# Altium schematic symbol library FlexBMS_lib.schlib: 25 symbols
Pins are listed as number, name and electrical type; pins without a type are passive.

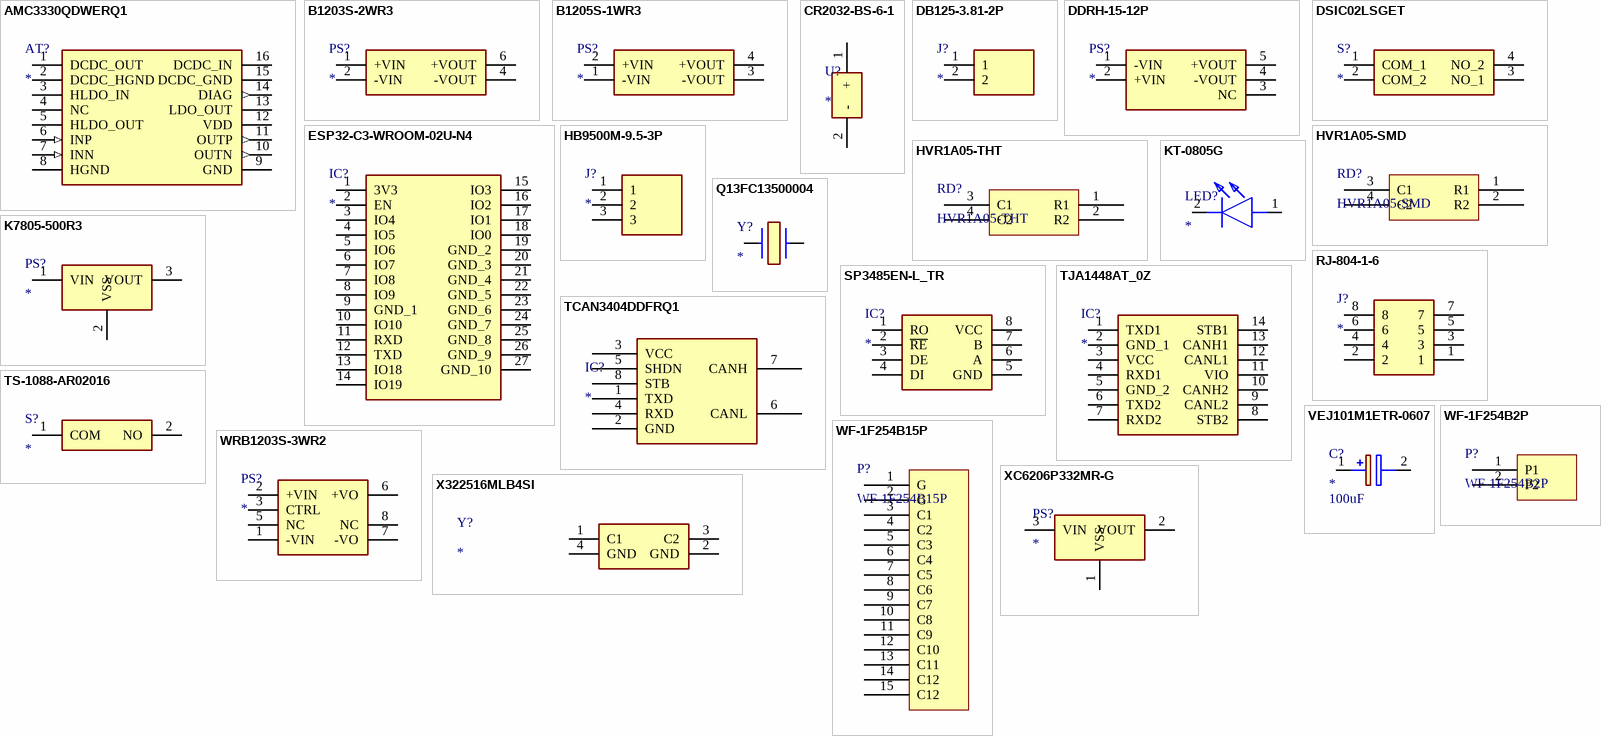
[diagram p0: symbols AMC3330QDWERQ1 to XC6206P332MR-G]

## AMC3330QDWERQ1
designator AT?
Attenuator or Isolator; Manufacturer_Name: Texas Instruments; Manufacturer_Part_Number: AMC3330QDWERQ1; Datasheet Link: https://www.ti.com/lit/ds/symlink/amc3330.pdf?ts=1605812770714&ref_url=https%253A%252F%252Fwww.ti.com%252Fsitesearch%252Fdocs%252Funiversalsearch.tsp%253FsearchTerm%253DAMC3330DWE; Height: 2.65mm; Mouser Part Number: 595-AMC3330QDWERQ1; Mouser Price/Stock: https://www.mouser.co.uk/ProductDetail/Texas-Instruments/AMC3330QDWERQ1?qs=81r%252BiQLm7BThq9fK1XpIYg%3D%3D; Arrow Part Number: AMC3330QDWERQ1; Arrow Price/Stock: https://www.arrow.com/en/products/amc3330qdwerq1/texas-instruments?utm_currency=USD&region=nac
footprint SOIC127P1030X265-16N
pins: 1 DCDC_OUT (power), 2 DCDC_HGND (power), 3 HLDO_IN (power), 4 NC, 5 HLDO_OUT (power), 6 INP (in), 7 INN (in), 8 HGND (power), 9 GND (power), 10 OUTN (out), 11 OUTP (out), 12 VDD (power), 13 LDO_OUT (power), 14 DIAG (out), 15 DCDC_GND (power), 16 DCDC_IN (power)

## B1203S-2WR3
designator PS?
Power Supply; Manufacturer_Name: Hi-Link; Manufacturer_Part_Number: B1203S-2WR3; Datasheet Link: https://wmsc.lcsc.com/wmsc/upload/file/pdf/v2/lcsc/2206171701_HI-LINK-HLK-B1203S-2WR3_C3029158.pdf; Height: 10.25mm
footprint B1203S2WR3
pins: 1 +VIN, 2 -VIN, 4 -VOUT, 6 +VOUT

## B1205S-1WR3
designator PS?
Power Supply; Manufacturer_Name: Hi-Link; Manufacturer_Part_Number: B1205S-1WR3; Datasheet Link: https://sharvielectronics.com/wp-content/uploads/2023/06/B_S-1WR3-Series-Specifications-Manual-V1.2.pdf; Height: 10.25mm
footprint B1205S1WR3
pins: 1 -VIN, 2 +VIN, 3 -VOUT, 4 +VOUT

## CR2032-BS-6-1
designator U?
Undefined or Miscellaneous; Manufacturer_Name: Q&J; Manufacturer_Part_Number: CR2032-BS-6-1; Datasheet Link: https://datasheet.lcsc.com/szlcsc/Q-J-CR2032-BS-6-1_C70377.pdf; Height: 6mm
footprint CR2032BS61
pins: 1 +, 2 -

## DB125-3.81-2P
designator J?
Connector; Manufacturer_Name: Cixi Dibo Electronics Co.,LTD; Manufacturer_Part_Number: DB125-3.81-2P; Datasheet Link: https://datasheet.lcsc.com/szlcsc/1910111742_DIBO-DB125-3-81-2P_C395878.pdf; Height: 8.8mm
footprint SHDR2W80P0X381_1X2_802X740X880P
pins: 1, 2

## DDRH-15-12P
designator PS?
Power Supply; Manufacturer_Name: Mean Well; Manufacturer_Part_Number: DDRH-15-12P; Datasheet Link: https://www.meanwell.com/webapp/product/search.aspx?prod=DDRH-15; Height: 25.03mm; Arrow Part Number: DDRH-15-12P; Arrow Price/Stock: https://www.arrow.com/en/products/ddrh-15-12p/mean-well-enterprises?utm_currency=USD&region=nac
footprint DDRH1512P
pins: 1 -VIN, 2 +VIN, 3 NC, 4 -VOUT, 5 +VOUT

## DSIC02LSGET
designator S?
Switch; Manufacturer_Name: Dongguan Guangzhu Industrial; Manufacturer_Part_Number: DSIC02LSGET; Datasheet Link: https://datasheet.lcsc.com/szlcsc/Dongguan-Guangzhu-Industrial-DSIC02LSGET_C54949.pdf; Height: 4.45mm
footprint SOP254P930X445-4N
pins: 1 COM_1, 2 COM_2, 3 NO_1, 4 NO_2

## ESP32-C3-WROOM-02U-N4
designator IC?
Integrated Circuit; Manufacturer_Name: Espressif Systems; Manufacturer_Part_Number: ESP32-C3-WROOM-02U-N4; Datasheet Link: https://www.espressif.com/sites/default/files/documentation/esp32-c3-wroom-02_datasheet_en.pdf; Height: 3.35mm; Mouser Part Number: 356-ESP32C3WROM02UN4; Mouser Price/Stock: https://www.mouser.co.uk/ProductDetail/Espressif-Systems/ESP32-C3-WROOM-02U-N4?qs=pBJMDPsKWf2Ces2aXBSNjQ%3D%3D
footprint ESP32C3WROOM02UN4
pins: 1 3V3, 2 EN, 3 IO4, 4 IO5, 5 IO6, 6 IO7, 7 IO8, 8 IO9, 9 GND_1, 10 IO10, 11 RXD, 12 TXD, 13 IO18, 14 IO19, 15 IO3, 16 IO2, 17 IO1, 18 IO0, 19 GND_2, 20 GND_3, 21 GND_4, 22 GND_5, 23 GND_6, 24 GND_7, 25 GND_8, 26 GND_9, 27 GND_10

## HB9500M-9.5-3P
designator J?
Connector; Manufacturer_Name: Ningbo Kangnex; Manufacturer_Part_Number: HB9500M-9.5-3P; Datasheet Link: https://datasheet.lcsc.com/szlcsc/Ningbo-Kangnex-Elec-HB9500-3_C162697.pdf; Height: 13.2mm
footprint HB9500M953P
pins: 1, 2, 3

## HVR1A05-SMD
designator RD?
ComponentLink1Description: Datasheet; ComponentLink1URL: https://jlcpcb.com/api/file/downloadByFileSystemAccessId/8603384602715443200
footprint HVR1A05-SMD (Footprint not found)
pins: 1 R1 "Contactor 1", 2 R2 "Contactor 2", 3 C1 "Coil 1", 4 C2 "Coil 2"

## HVR1A05-THT
designator RD?
ComponentLink1Description: Datasheet; ComponentLink1URL: https://jlcpcb.com/api/file/downloadByFileSystemAccessId/8603384602715443200
footprint HVR1A05-THT (Footprint not found)
pins: 1 R1 "Contactor 1", 2 R2 "Contactor 2", 3 C1 "Coil 1", 4 C2 "Coil 2"

## K7805-500R3
designator PS?
Power Supply; Manufacturer_Name: Mornsun Power; Manufacturer_Part_Number: K7805-500R3; Height: 10.41mm
footprint K7805500R3
pins: 1 VIN, 2 VSS, 3 VOUT

## KT-0805G
designator LED?
LED; Manufacturer_Name: Hubei KENTO Elec; Manufacturer_Part_Number: KT-0805G; Datasheet Link: https://jlcpcb.com/api/file/downloadByFileSystemAccessId/8639582106239348736; Height: 0.95mm
footprint KT0805G
pins: 1 A, 2 K

## Q13FC13500004
designator Y?
Crystal or Oscillator; Manufacturer_Name: Seiko Epson Corporation; Manufacturer_Part_Number: Q13FC1350000400; Datasheet Link: https://datasheet.lcsc.com/szlcsc/1901081604_Seiko-Epson-Q13FC1350000400_C32346.pdf; Height: 0.9mm
footprint Q13FC1350000400
pins: 1 CRYSTAL_1, 2 CRYSTAL_2

## RJ-804-1-6
designator J?
Connector; Manufacturer_Name: FG; Manufacturer_Part_Number: RJ-804-1-6; Datasheet Link: https://www.lcsc.com/datasheet/lcsc_datasheet_2306211558_FG-RJ-804-1-6_C7205183.pdf; Height: 11.7mm
footprint RJ80416
pins: 1, 2, 3, 4, 5, 6, 7, 8

## SP3485EN-L_TR
designator IC?
Integrated Circuit; Manufacturer_Name: MaxLinear; Manufacturer_Part_Number: SP3485EN-L/TR; Datasheet Link: https://www.maxlinear.com/ds/sp3485.pdf; Height: 1.75mm; Mouser Part Number: 701-SP3485EN-L/TR; Mouser Price/Stock: https://www.mouser.co.uk/ProductDetail/MaxLinear/SP3485EN-L-TR?qs=3EMgrMjM0fbQ17liGrle%2Fg%3D%3D; Arrow Part Number: SP3485EN-L/TR; Arrow Price/Stock: https://www.arrow.com/en/products/sp3485en-ltr/maxlinear-inc?region=nac
footprint SOIC127P600X175-8N
pins: 1 RO, 2 ~{RE}, 3 DE, 4 DI, 5 GND, 6 A, 7 B, 8 VCC

## TCAN3404DDFRQ1
designator IC?
Integrated Circuit; Manufacturer_Name: TI; Manufacturer_Part_Number: TCAN3404DDFRQ1; Datasheet Link: https://www.ti.com/lit/ds/symlink/tcan3404-q1.pdf; Height: 1.1mm; JLCPCB Part #: C32428067
footprint TSOT-23-8 (SOT-23-THIN)
pins: 1 TXD, 2 GND, 3 VCC, 4 RXD, 5 SHDN, 6 CANL, 7 CANH, 8 STB

## TJA1448AT_0Z
designator IC?
Integrated Circuit; Manufacturer_Name: NXP; Manufacturer_Part_Number: TJA1448AT/0Z; Datasheet Link: https://www.mouser.jp/datasheet/2/302/TJA1448-1949266.pdf; Height: 1.75mm; Mouser Part Number: 771-TJA1448AT/0Z; Mouser Price/Stock: https://www.mouser.co.uk/ProductDetail/NXP-Semiconductors/TJA1448AT-0Z?qs=eP2BKZSCXI5uppKlRg%252Bceg%3D%3D; Arrow Part Number: TJA1448AT/0Z; Arrow Price/Stock: https://www.arrow.com/en/products/tja1448at0z/nxp-semiconductors?utm_currency=USD&region=nac
footprint SOIC127P600X175-14N
pins: 1 TXD1, 2 GND_1, 3 VCC, 4 RXD1, 5 GND_2, 6 TXD2, 7 RXD2, 8 STB2, 9 CANL2, 10 CANH2, 11 VIO, 12 CANL1, 13 CANH1, 14 STB1

## TS-1088-AR02016
designator S?
Switch; Manufacturer_Name: XUNPU; Manufacturer_Part_Number: TS-1088-AR02016; Datasheet Link: https://www.xunpudianzi.com/uploads/pdf/TS-1088-ARXXX.pdf; Height: 2mm
footprint TS1088AR02016
pins: 1 COM, 2 NO

## VEJ101M1ETR-0607
designator C?  value 100uF
Capacitor Polarised; Manufacturer_Name: Lelon; Manufacturer_Part_Number: VEJ101M1ETR-0607; Datasheet Link: https://www.mouser.de/datasheet/2/231/161587198639-2307150.pdf; Height: 8mm
footprint CAPAE660X800N
pins: 1 +, 2 -

## WF-1F254B2P
designator P?
2-pins JST XHB connector SMD right-angle
footprint WF-1F254B2P
pins: 1 P1, 2 P2

## WF-1F254B15P
designator P?
15-pins JST XHB connector SMD right-angle
footprint WF-1F254B15P
pins: 1 G, 2 G, 3 C1, 4 C2, 5 C3, 6 C4, 7 C5, 8 C6, 9 C7, 10 C8, 11 C9, 12 C10, 13 C11, 14 C12, 15 C12

## WRB1203S-3WR2
designator PS?
Power Supply; Manufacturer_Name: EVISUN; Manufacturer_Part_Number: WRB1203S-3WR2; Datasheet Link: https://jlc-prod-smt.oss-eu-central-1.aliyuncs.com/smtDataManualFile/8763072730084188160-C22437321.pdf?response-content-disposition=attachment%3B%20filename%3DC22437321.pdf%3B%20filename%2A%3DUTF-8%27%27C22437321.pdf&x-oss-date=20260715T193454Z&x-oss-expires=3600&x-oss-security-token=CAISgAN1q6Ft5B2yfSjIr5vGB4%2FWvadn2vqmc1aEsUE0QuZpjqjbpjz2IHhMdHJsAOodtv0%2FmmhT6PkclqRLcbhpcmfjV%2BZHzLB8qZ1MhF5f4J7b16cNrbH4M4H6aXeirtuwDsz9SNTCALjPD3nPii50x5bjaDymRCbLGJaViJlhHLN1Ow6jdmhpCctxLAlvo9NgFxm3D%2Fu2NQPwiWf9FVdhvhEG6Vly8qOi2MaRmFy8yFTx0b0SvJ%2BjYMrmPctoN9JnSdC5mfdzau3a1TJ84gRD0a5wkaVA1zbDs5bfISEIuUzebreLqY03dV4mOvdqIcMe8qigz88fk%2FfIioH6xyxKOexoSCnFTOiiupCcQLPyao9jLu6iayqViY7QaIOTqQohZmkAMwVOasAsI3Ngh4zF97Qt0cVNkXO9gWfLI8DtuMleWgprXccO%2BnSgc5lCkRRYwGs1287ugXlSQzo890KPDAEovaKCnZ2ZSfh7Y4sNknI6i%2Bfc2Se2MIkIyKE0YqKWD5sagAECs9NCpk8KgfXfWYxhKhKZsha9ngqEXyXXVVOpb2GGT6djF3S%2FLTKh30%2B6uTt7oH6XhzPlB7WR%2Fa7FsvHfaJ62Hu2KaBZEBf7KJcteyMD33hzIrNZl9%2F9XvPXuCryTgxV1ie4rkrvTaUkWCQr%2BRp6R1%2FN9Ic7TFTQ1orsPZrHwHCAA&x-oss-signature-version=OSS4-HMAC-SHA256&x-oss-credential=STS.NXsL5bPxFm8Mqp5UAaNiEampD%2F20260715%2Feu-central-1%2Foss%2Faliyun_v4_request&x-oss-signature=73c165591a835ffcff11ee9ad605e23bde33f7af0c5ec7bf6709df0808843322; Height: 12.25mm; JLCPCB Part #: C22437321
footprint WRB1203S3WR2
pins: 1 -VIN, 2 +VIN, 3 CTRL, 5 NC, 6 +VO, 7 -VO, 8 NC

## X322516MLB4SI
designator Y?
Crystal or Oscillator; Manufacturer_Name: Yangxing Tech; Manufacturer_Part_Number: X322516MLB4SI; Datasheet Link: https://datasheet.lcsc.com/szlcsc/Yangxing-Tech-X322516MLB4SI_C13738.pdf; Height: 0.8mm
footprint X322516MLB4SI
pins: 1 C1, 2 GND, 3 C2, 4 GND

## XC6206P332MR-G
designator PS?
Power Supply; Manufacturer_Name: Torex; Manufacturer_Part_Number: XC6206P332MR-G; Datasheet Link: https://www.torexsemi.com/file/xc6206/XC6206.pdf; Height: 1.3mm; Mouser Part Number: 865-XC6206P332MR-G; Mouser Price/Stock: https://www.mouser.co.uk/ProductDetail/Torex-Semiconductor/XC6206P332MR-G?qs=AsjdqWjXhJ%2FXxNpRY3zZ8g%3D%3D
footprint SOT95P280X130-3N
pins: 1 VSS (power), 2 VOUT (power), 3 VIN (power)